# EAGLE library part DRF1272F (library alvie)
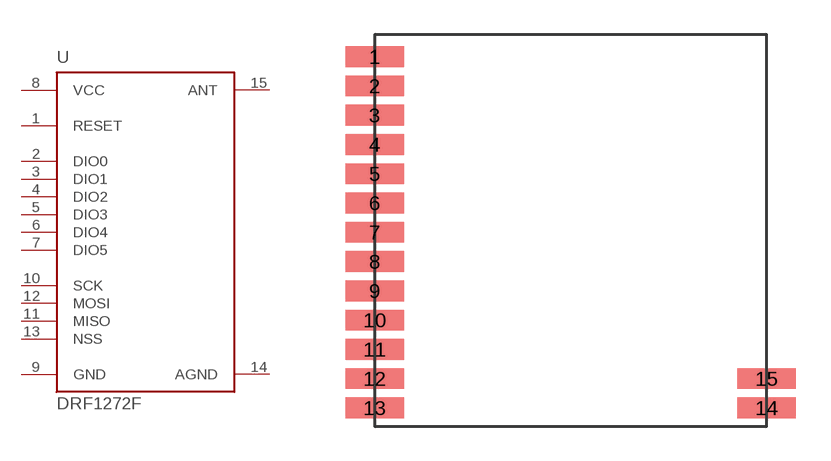
[diagram p31: symbol with the pads of DRF1272F; footprint DRF1272F]

Designator prefix -

## DRF1272F  [DRF1272F]
1  RESET  in
2  DIO0
3  DIO1
4  DIO2
5  DIO3
6  DIO4
7  DIO5
8  VCC  pwr
9  GND  pwr
10  SCK  in
11  MISO  pas
12  MOSI  in
13  NSS  in
14  AGND  pwr
15  ANT  pas

## Footprint DRF1272F (pad centres in mm)
smd 2.54 x 0.9: 1 0,16.04; 2 0,14.77; 3 0,13.5; 4 0,12.23; 5 0,10.96; 6 0,9.69; 7 0,8.42; 8 0,7.15; 9 0,5.88; 10 0,4.61; 11 0,3.34; 12 0,2.07; 13 0,0.8; 14 17,0.8; 15 17,2.07